# Altium footprint library MOLEX_5040500891.PcbLib: 1 footprints
Each footprint in its own frame and in the unit in brackets; x right, y up, seen from the top. Pads: shape width x height; smd on the part's side, far side on the other; paste and mask are expansions set on the pad; w line width, h text height; cw(c..) or ccw(c..) is an arc to the next point about the centre after c.
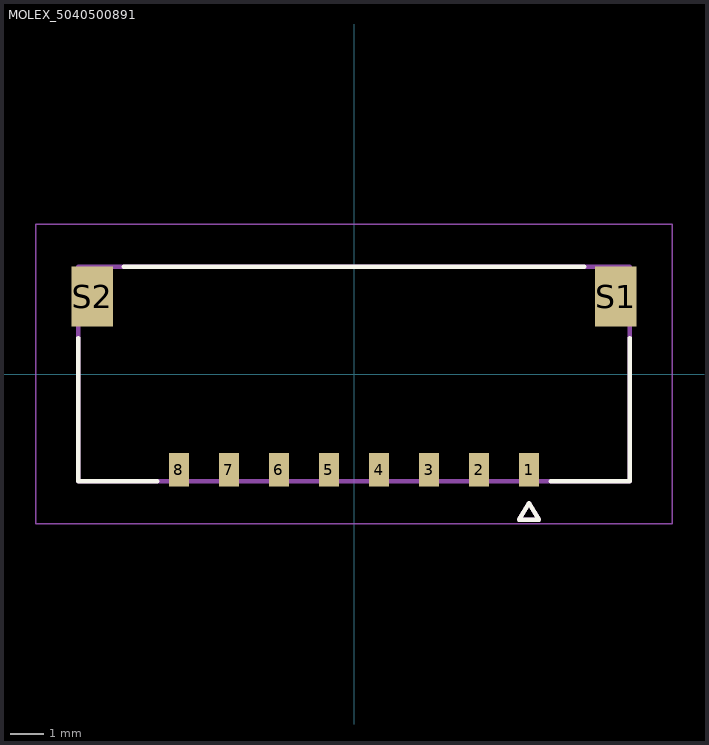
[diagram p0: the footprint, top view; thin cyan lines are the x and y axes]

## MOLEX_5040500891 [mm]
height 2.15
pads (10):
  rect 0.6x1 smd mask+0.076: 1(5.25,-2.87) 2(3.75,-2.87) 3(2.25,-2.87) 4(0.75,-2.87) 5(-0.75,-2.87) 6(-2.25,-2.87) 7(-3.75,-2.87) 8(-5.25,-2.87)
  rect 1.25x1.8 smd mask+0.076: S1(7.855,2.32) S2(-7.855,2.32)
Top Overlay:
  lines w0.127: -8.275,1.08 -8.275,-3.22 -5.9,-3.22 ; -6.91,3.22 6.91,3.22 ; 5.9,-3.22 8.275,-3.22 8.275,1.08 ; 4.95,-4.37 5.55,-4.37 5.25,-3.87 4.95,-4.37
Mechanical 13:
  lines w0.127: -8.275,-3.22 8.275,-3.22 8.275,3.22 -8.275,3.22 -8.275,-3.22 ; 4.95,-4.37 5.55,-4.37 5.25,-3.87 4.95,-4.37
Mechanical 15:
  lines w0.05: -9.545,-4.49 -9.545,4.49 9.545,4.49 9.545,-4.49 -9.545,-4.49